# Altium footprint library BM13B-GHS-TBT(LF)(SN)(N).PcbLib: 1 footprints
Each footprint in its own frame and in the unit in brackets; x right, y up, seen from the top. Pads: shape width x height; smd on the part's side, far side on the other; paste and mask are expansions set on the pad; w line width, h text height; cw(c..) or ccw(c..) is an arc to the next point about the centre after c.
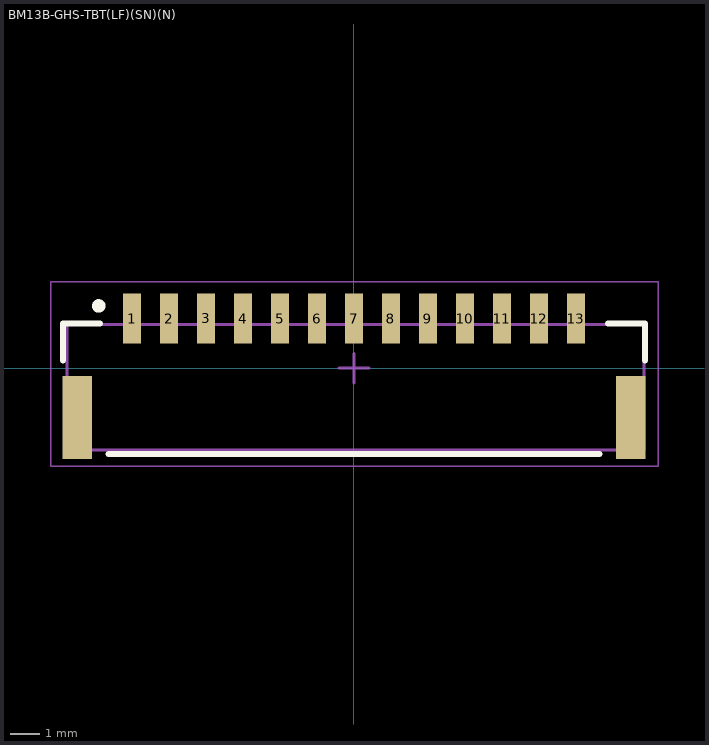
[diagram p0: the footprint, top view; thin cyan lines are the x and y axes]

## BM13B-GHS-TBT(LF)(SN)(N) [mm]
pads (15):
  rect 0.6x1.7 smd: 1(-7.5,1.675) 2(-6.25,1.675) 3(-5,1.675) 4(-3.75,1.675) 5(-2.5,1.675) 6(-1.25,1.675) 7(0,1.675) 8(1.25,1.675) 9(2.5,1.675) 10(3.75,1.675) 11(5,1.675) 12(6.25,1.675) 13(7.5,1.675)
  rect 1x2.8 smd: ""(-9.35,-1.675) ""(9.35,-1.675)
Top Overlay:
  circle w0.254: c-8.625,2.1 r0.1
  lines w0.2: -9.825,0.25 -9.825,1.5 -8.575,1.5 ; -8.3,-2.9 8.3,-2.9 ; 8.575,1.5 9.825,1.5 9.825,0.25
Mechanical 1:
  lines w0.1: -9.7,-2.775 -9.7,1.475 9.8,1.475 9.8,-2.775 -9.7,-2.775
  text ".Designator" at -3.374,-1.308 h0.65
Mechanical 2:
  lines w0.05: -10.25,-3.325 -10.25,2.925 10.275,2.925 10.275,-3.325 -10.25,-3.325
  lines w0.1: -0.5,0 0.5,0 ; 0,-0.5 0,0.5
3D body "BM13B-GHS-TBT.STEP": height 4.18, standoff -0.03, extent -9.725,-2.775 9.775,2.175